# Altium schematic symbol library LSM6DSOTR.Schlib: 1 symbol
Pins are listed as number, name and electrical type; pins without a type are passive.

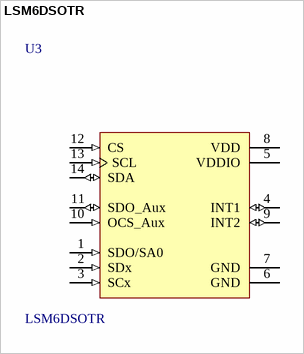
[diagram p0: symbol LSM6DSOTR]

## LSM6DSOTR
designator U3
Accelerometer, Gyroscope, 6 Axis Sensor I²C, SPI Output
pins: 1 SDO/SA0 (in), 2 SDx (in), 3 SCx (in), 4 INT1 (io), 5 VDDIO (power), 6 GND (power), 7 GND (power), 8 VDD (power), 9 INT2 (io), 10 OCS_Aux (in), 11 SDO_Aux (io), 12 CS (in), 13 SCL (in), 14 SDA (io)